# Altium footprint library Mini Multi Function Device.PcbLib: 23 footprints (part 2 of 2)
Each footprint in its own frame and in the unit in brackets; x right, y up, seen from the top. Pads: shape width x height; smd on the part's side, far side on the other; paste and mask are expansions set on the pad; w line width, h text height; cw(c..) or ccw(c..) is an arc to the next point about the centre after c.
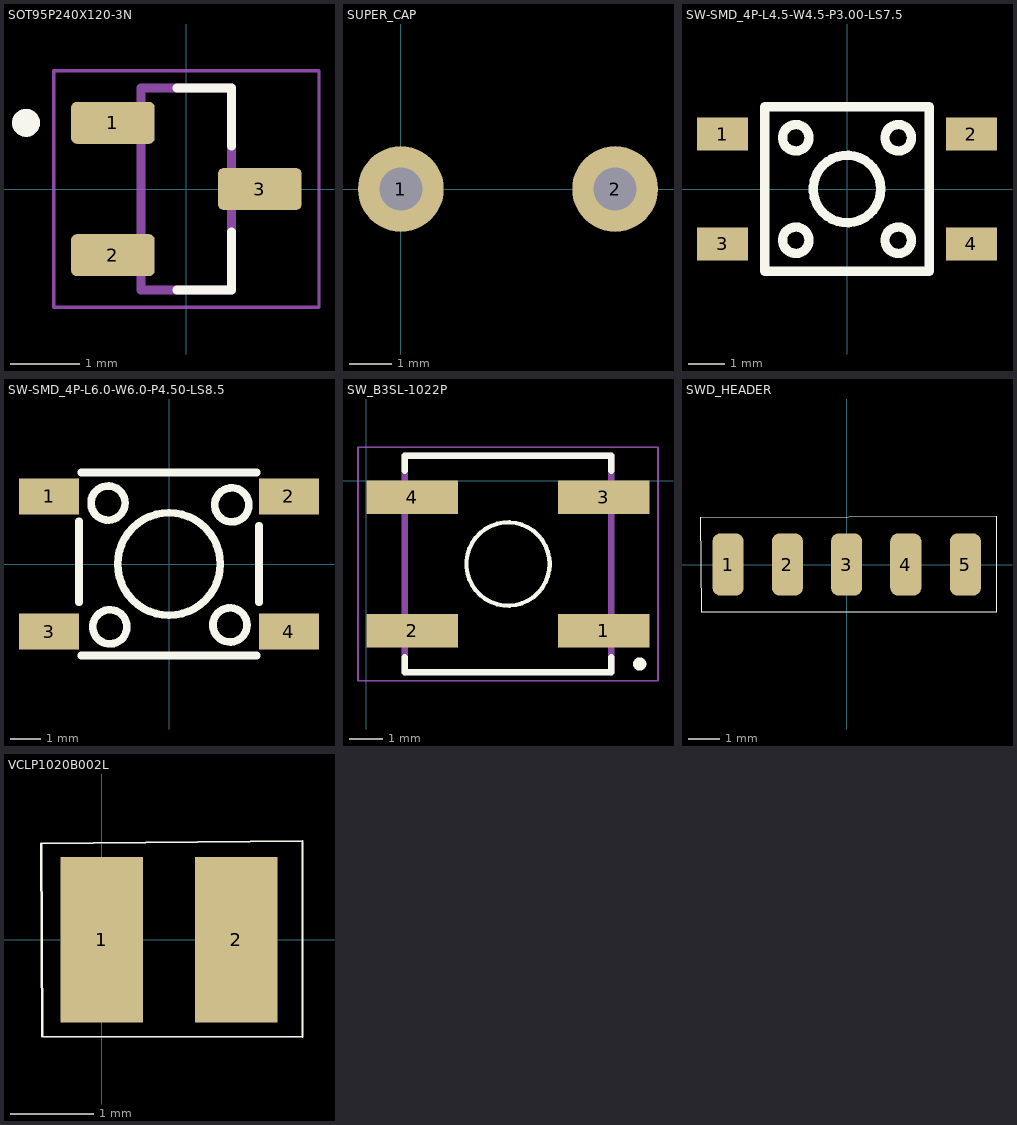
[diagram p1: the footprints below, top view; thin cyan lines are the x and y axes]

## SOT95P240X120-3N [mm]
height 1.2
pads (3):
  rrect25% 1.2x0.6 smd paste+0 mask+0.102: 1(-1.055,0.95) 2(-1.055,-0.95) 3(1.055,0)
Top Overlay:
  circle w0.2: c-2.305,0.95 r0.1
  lines w0.127: -0.135,-1.45 0.65,-1.45 0.65,-0.62 ; -0.135,1.45 0.65,1.45 0.65,0.62
Mechanical 13:
  circle w0.2: c-2.305,0.95 r0.1
  lines w0.127: -0.65,-1.45 -0.65,1.45 0.65,1.45 0.65,-1.45 -0.65,-1.45
Mechanical 15:
  lines w0.05: -1.905,-1.7 -1.905,1.7 1.905,1.7 1.905,-1.7 -1.905,-1.7
3D body "step_temp.STEP": height 1.3, standoff 0, extent -1.3,-1.52 1.3,1.52

## SUPER_CAP [mm]
pads (2):
  round 2 hole 1: 1(0,0) 2(5,0)

## SW-SMD_4P-L4.5-W4.5-P3.00-LS7.5 [mm]
pads (4):
  rect 1.4x0.9 smd paste+0 mask+0.051: 1(-3.4,1.5) 2(3.4,1.5) 3(-3.4,-1.5) 4(3.4,-1.5)
Top Overlay:
  circle w0.254: c0,0 r0.922
  circle w0.254: c1.4,1.4 r0.361
  circle w0.254: c-1.4,1.4 r0.361
  circle w0.254: c-1.4,-1.4 r0.361
  circle w0.254: c1.4,-1.4 r0.361
  lines w0.254: -2.25,-2.25 2.25,-2.25 2.25,2.25 -2.25,2.25 -2.25,-2.25
3D body "step_temp.STEP": height 5.1, standoff 0, extent -3.5,-3.25 3.5,3.25

## SW-SMD_4P-L6.0-W6.0-P4.50-LS8.5 [mm]
pads (4):
  rect 2x1.2 smd paste+0 mask+0.051: 1(-4,2.25) 2(4,2.25) 3(-4,-2.25) 4(4,-2.25)
Top Overlay:
  circle w0.254: c2.032,-2.032 r0.568
  circle w0.254: c2.093,1.971 r0.568
  circle w0.254: c-1.971,-2.093 r0.568
  circle w0.254: c-2.032,2.032 r0.568
  circle w0.254: c0,0 r1.709
  lines w0.254: -3,-1.269 -3,1.269 -3,1.419 ; -2.921,-3.048 2.921,-3.048 ; -2.921,3.048 2.921,3.048 ; 3,-1.269 3,1.269
3D body "step_temp.STEP": height 5.1, standoff 0, extent -3.516,-3.284 3.484,3.216

## SW_B3SL-1022P [mm]
pads (4):
  rect 2.75x1 smd: 1(7.125,-4.5) 2(1.375,-4.5) 3(7.125,-0.5) 4(1.375,-0.5)
Top Overlay:
  circle w0.2: c8.2,-5.5 r0.1
  circle w0.127: c4.25,-2.5 r1.25
  lines w0.2: 1.15,-5.3 1.15,-5.75 7.35,-5.75 7.35,-5.3 ; 1.15,0.3 1.15,0.75 7.35,0.75 7.35,0.3
Mechanical 13:
  lines w0.127: 1.15,-5.75 7.35,-5.75
  lines w0.2: 1.15,-5.75 1.15,0.75 7.35,0.75 7.35,-5.75
Mechanical 15:
  lines w0.05: -0.25,-6 -0.25,1 8.75,1 8.75,-6 -0.25,-6
3D body "step_temp.STEP": height 5.1, standoff 0, extent 0.717,-5.696 7.717,0.804

## SWD_HEADER [mm]
pads (5):
  rrect50% 1x2 smd: 1(-3.816,0) 2(-1.911,0) 3(-0.006,0) 4(1.899,0) 5(3.816,0)
Top Overlay:
  lines w0.025: -4.705,1.524 4.832,1.556 4.832,-1.524 -4.68,-1.524 -4.705,1.524

## VCLP1020B002L [mm]
pads (2):
  rect 1x2 smd: 1(0,0) 2(1.625,0)
Top Overlay:
  lines w0.025: -0.732,1.16 2.425,1.193 2.425,-1.18 -0.72,-1.17 -0.732,1.16